# EAGLE library part EC202A (library mita-akiba)
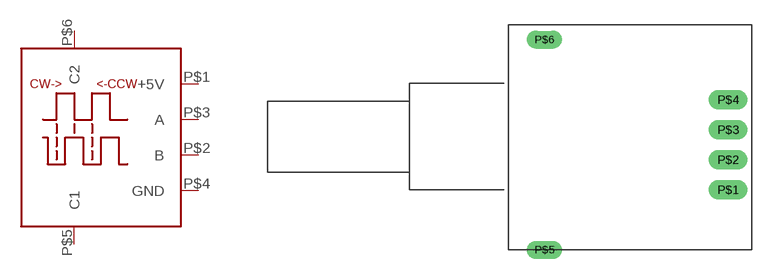
[diagram p43: symbol with the pads of EC202; footprint EC202]

Designator prefix -

## EC202A  [EC202]
P$1  +5V
P$2  B
P$3  A
P$4  GND
P$5  C1
P$6  C2

## Footprint EC202 (pad centres in mm)
drill 1.1 long: P$1 0,0; P$2 0,2.54; P$3 0,5.08; P$4 0,7.62
drill 1 long: P$5 -15.557,-5.08; P$6 -15.557,12.7